# Altium footprint library CON2_16awg_power.PcbLib: 1 footprints
Each footprint in its own frame and in the unit in brackets; x right, y up, seen from the top. Pads: shape width x height; smd on the part's side, far side on the other; paste and mask are expansions set on the pad; w line width, h text height; cw(c..) or ccw(c..) is an arc to the next point about the centre after c.
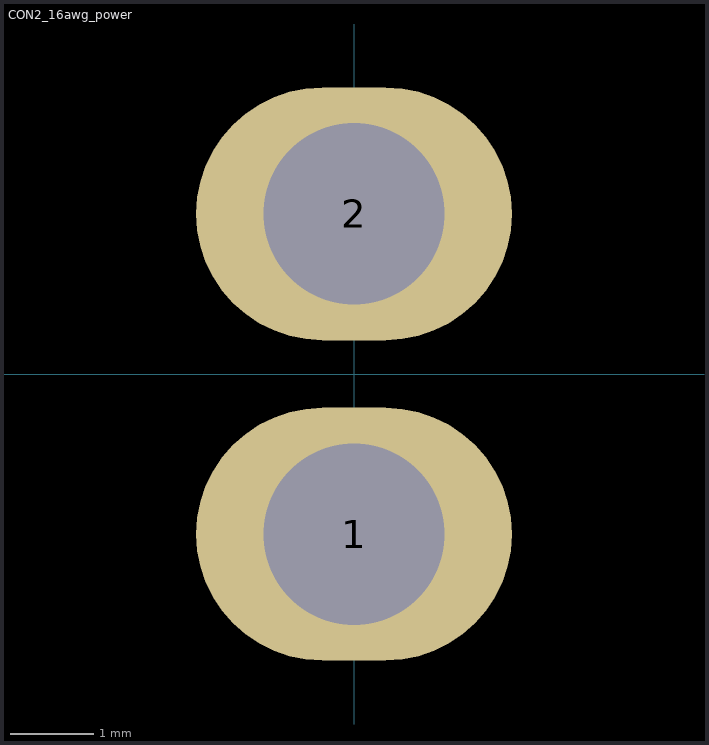
[diagram p0: the footprint, top view; thin cyan lines are the x and y axes]

## CON2_16awg_power [mil]
pads (2):
  oval 150x120 / inner oval 150x120 / far side round 110 hole 86 mask+3: 1(0,-76) 2(0,76)